# Altium footprint library CAPMP7343X430N.PcbLib: 1 footprints
Each footprint in its own frame and in the unit in brackets; x right, y up, seen from the top. Pads: shape width x height; smd on the part's side, far side on the other; paste and mask are expansions set on the pad; w line width, h text height; cw(c..) or ccw(c..) is an arc to the next point about the centre after c.
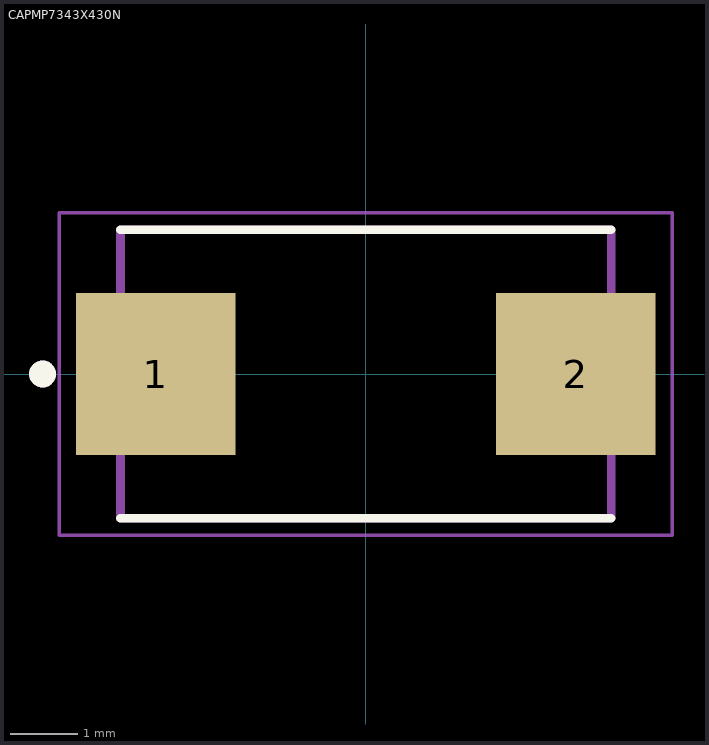
[diagram p0: the footprint, top view; thin cyan lines are the x and y axes]

## CAPMP7343X430N [mm]
height 4.3
pads (2):
  rect 2.37x2.41 smd: 1(-3.125,0) 2(3.125,0)
Top Overlay:
  circle w0.2: c-4.81,0 r0.1
  lines w0.127: -3.65,-2.15 3.65,-2.15 ; -3.65,2.15 3.65,2.15
Assembly Top:
  circle w0.2: c-4.81,0 r0.1
  lines w0.127: -3.65,-2.15 -3.65,2.15 3.65,2.15 3.65,-2.15 -3.65,-2.15
Courtyard Top:
  lines w0.05: -4.56,-2.4 -4.56,2.4 4.56,2.4 4.56,-2.4 -4.56,-2.4
3D body "step_temp.STEP": height 4.3, standoff 0, extent -3.65,-2.15 3.65,2.15